# EAGLE library part FINDER (library Relais Finder - 3 x Schließer)
Name des Bauteiles: Relais, 3 Schließer für 16 A Daten:24 V DC Spulenspannung; Finder: F62.23.9.024.0300 Artikelnummer: #030100 Datenblatt:www.finder.com
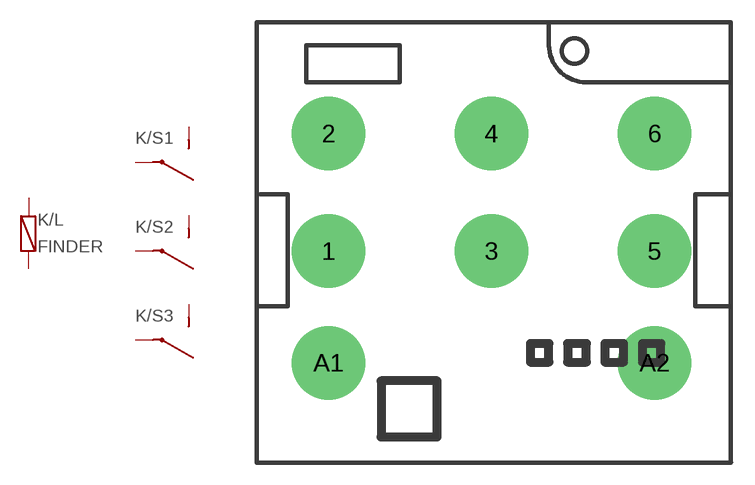
[diagram p0: symbol with the pads of FINDER; footprint FINDER]

Designator prefix K; gates /L=SPULE /S1=1_SCHIESSER /S2=2_SCHLIESSER /S3=3_SCHLIESSER

## FINDERF62.23.9.024.0300  [FINDER]
1  /S1:1  pas
2  /S1:2  pas
3  /S2:3  pas
4  /S2:4  pas
5  /S3:5  pas
6  /S3:6  pas
A1  /L:A1
A2  /L:A2

## Footprint FINDER (pad centres in mm)
drill 2.2 pad 5: 1 -11.2,-0.06; 2 -11.2,7.94; 3 -0.1,-0.06; 4 -0.1,7.94; 5 11,-0.06; 6 11,7.94; A1 -11.2,-7.66; A2 11,-7.66